# Altium footprint library Matsushita Relay 12V.PcbLib: 1 footprints
Each footprint in its own frame and in the unit in brackets; x right, y up, seen from the top. Pads: shape width x height; smd on the part's side, far side on the other; paste and mask are expansions set on the pad; w line width, h text height; cw(c..) or ccw(c..) is an arc to the next point about the centre after c.
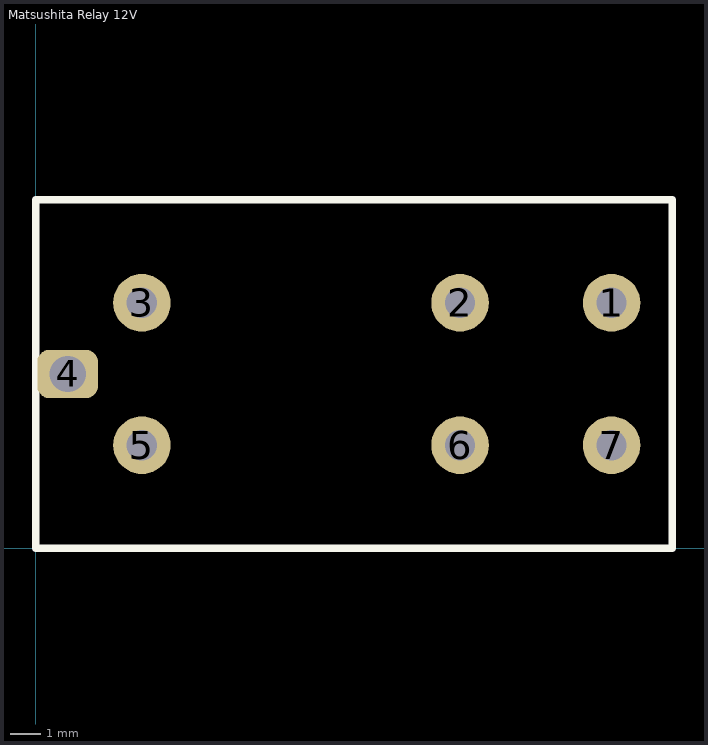
[diagram p0: the footprint, top view; thin cyan lines are the x and y axes]

## Matsushita Relay 12V [mm]
pads (7):
  round 1.9 hole 1: 1(19,8.1) 2(14,8.1) 3(3.5,8.1) 5(3.5,3.4) 6(14,3.4) 7(19,3.4)
  rrect50% 2x1.6 hole 1.2 square: 4(1.05,5.75)
Top Overlay:
  lines w0.254: 0,0 21,0 21,11.5 0,11.5 0,0